# EAGLE library part REM3-1205S/A (library DC-DC Converter)
DC DC CONVERTER 5V 3W Manufacturer's datasheet <https://recom-power.com/pdf/Medline_DC-DC/REM3.pdf>
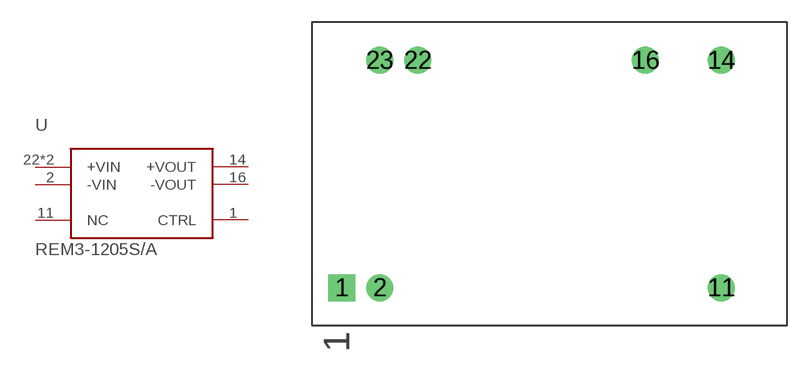
[diagram p5: symbol with the pads of REM3-1205S/A; footprint REM3-1205S/A]

Designator prefix U

## REM3-1205S/A (CREATED_BY: PCBLayout.com; DIGIKEY_PN: 945-2226-ND; MANUFACTURER: Recom Power; MPN: REM3-1205S/A; PACKAGE: 24-DIP Module)  [REM3-1205S/A]
1  CTRL  pwr
2  -VIN  in
11  NC  pas
14  +VOUT  out
16  -VOUT  out
22  +VIN  in
23  +VIN  in

## Footprint REM3-1205S/A (pad centres in mm)
drill 0.9 pad 1.8 square: 1 -12.7,-7.62
drill 0.9 pad 1.8: 2 -10.16,-7.62; 11 12.7,-7.62; 14 12.7,7.62; 16 7.62,7.62; 22 -7.62,7.62; 23 -10.16,7.62